# EAGLE library part PH-2.0-4P (library Deegou_Connector)
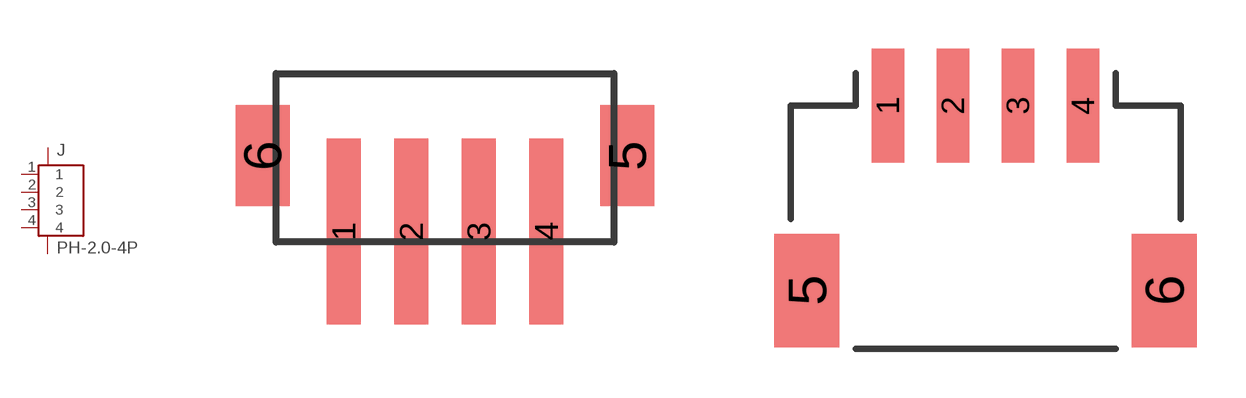
[diagram p49: symbol with the pads of PH2.0_4P_180; footprints PH2.0_4P_180, PH-2.0-4P]

Designator prefix J

## PH-2.0-4P-180  [PH2.0_4P_180]
1  1
2  2
3  3
4  4
5  6
6  5

## PH-2.0-4P  [PH-2.0-4P]
1  1
2  2
3  3
4  4
5  5
6  6

## Footprint PH2.0_4P_180 (pad centres in mm)
smd 1 x 5.5: 1 -3,0; 2 -1,0; 3 1,0; 4 3,0
smd 1.6 x 3: 5 5.4,2.25; 6 -5.4,2.25

## Footprint PH-2.0-4P (pad centres in mm)
smd 1 x 3.5: 1 -2,0; 2 0,0; 3 2,0; 4 4,0
smd 2 x 3.5: 5 -4.5,-5.7; 6 6.5,-5.7